# Altium footprint library PCB1.PcbLib: 13 footprints
Each footprint in its own frame and in the unit in brackets; x right, y up, seen from the top. Pads: shape width x height; smd on the part's side, far side on the other; paste and mask are expansions set on the pad; w line width, h text height; cw(c..) or ccw(c..) is an arc to the next point about the centre after c.
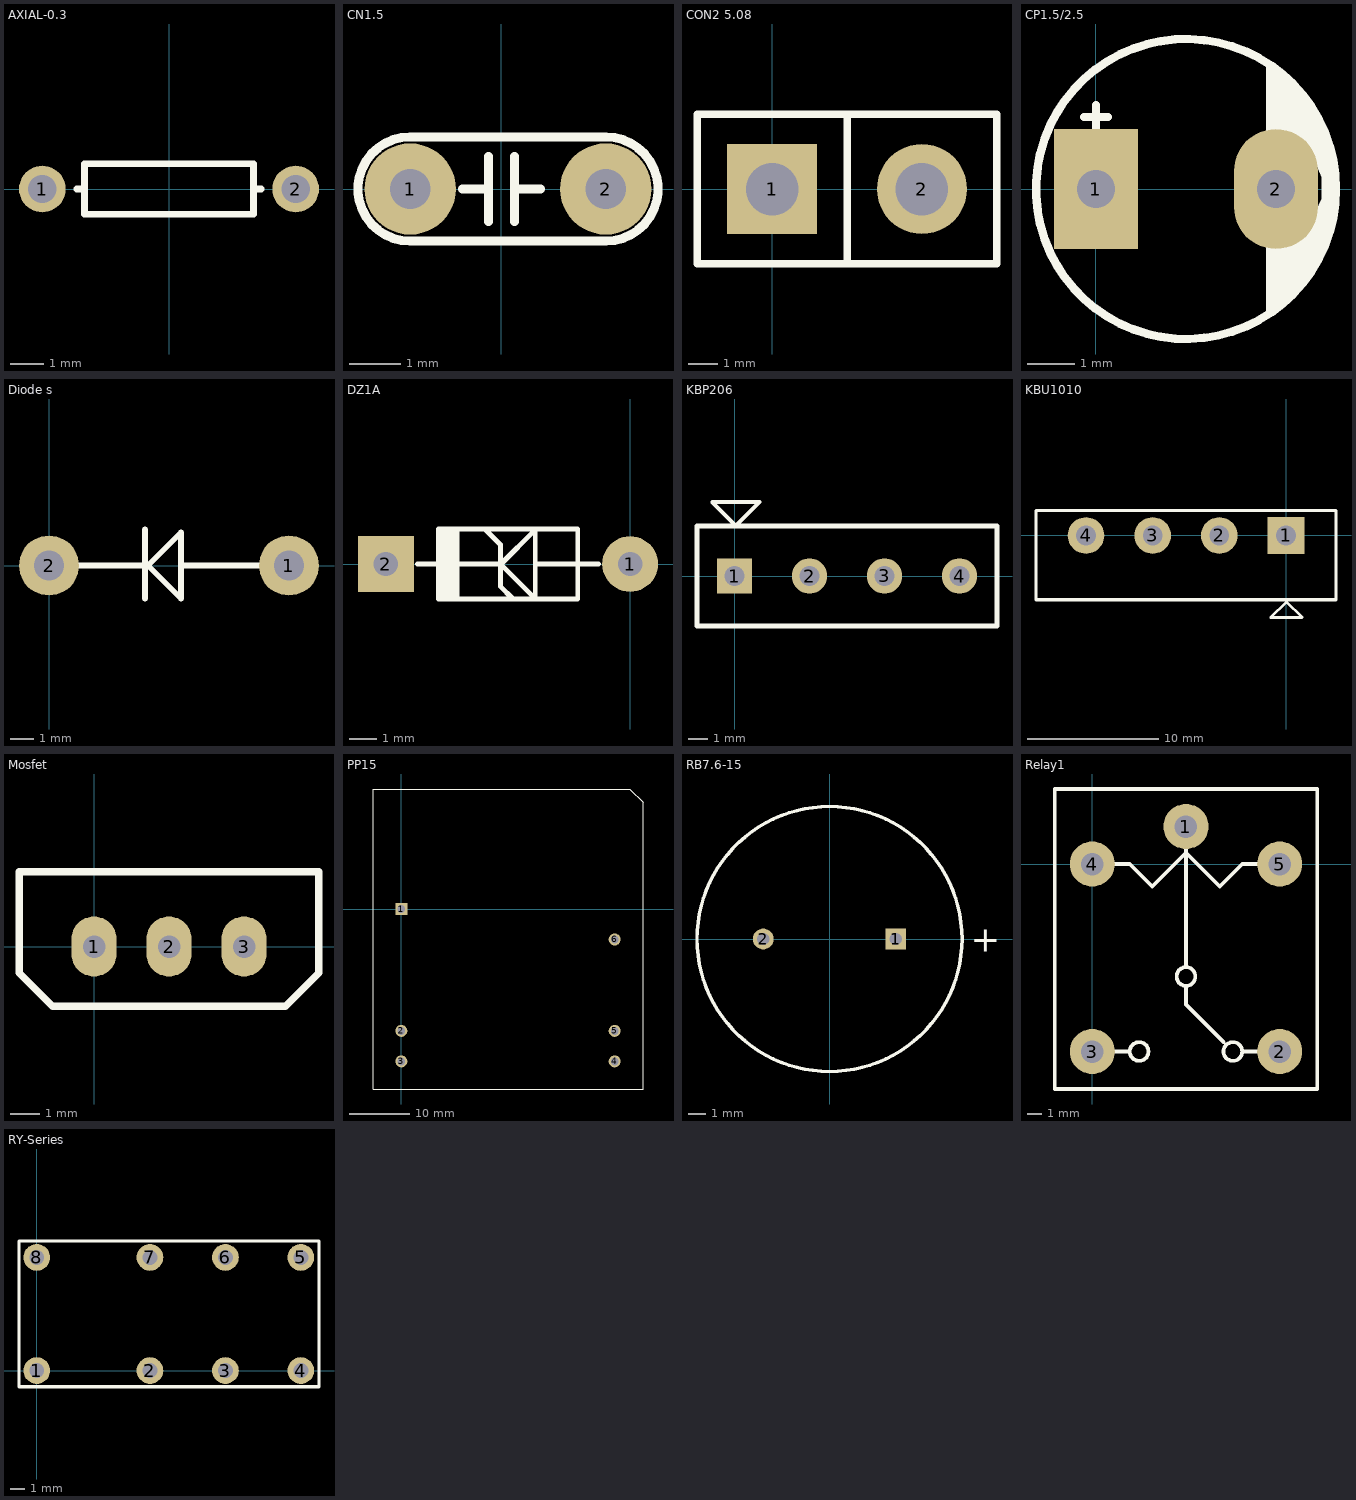
[diagram p0: the footprints below, top view; thin cyan lines are the x and y axes]

## AXIAL-0.3 [mm] "Axial Device, Thru-Hole; 2 Leads; 0.3 in Pin Spacing"
height 1.524
pads (2):
  round 1.4 hole 0.85: 1(-3.81,0) 2(3.81,0)
Top Overlay:
  lines w0.2: -2.769,0 -2.54,0 ; 2.769,0 2.54,0 ; 2.54,0 2.54,0.762 -2.54,0.762 -2.54,-0.762 2.54,-0.762 2.54,0

## CN1.5 [mil]
height 200
pads (2):
  round 70 hole 31: 1(-70,0) 2(80,0)
Top Overlay:
  lines w7: -30,0 -10,0 ; -10,-25 -10,25 ; 10,-25 10,25 ; 10,0 30,0 ; -70,-40 cw(c-70,0) -70,40 80,40 cw(c80,0) 80,-40 -70,-40
3D body "cn104.STEP": height 235, standoff -76.85, extent -109.86,-33.39 120,33.4

## CON2 5.08 [mil]
pads (2):
  rect 120x120 hole 70: 1(0,0)
  round 120 hole 70: 2(200,0)
Top Overlay:
  lines w10: 100,-100 100,100 ; -100,-100 300,-100 300,100 -100,100 -100,-100

## CP1.5/2.5 [mil] "Tu hoa 33 >100 uF,50V, 220uF/16V,25V ( it su dung )"
height 300
pads (2):
  rect 70x100 hole 32: 1(0,0)
  oval 70x100 hole 32: 2(150,0)
Top Overlay:
  circle w7: c75,0 r125
  region: 142,106 142,39 156,39 173,35 182,25 188,10 188,-8 183,-19 183,-19.53 171,-33 155,-38 142,-41 142,-107 156,-96 177,-72 194,-40 199,-14 200,0 198,24 189,50 175,74 160,93
  lines w7: -10,60 10,60 ; 0,50 0,70
3D body "User Library-Cap 6_3x11.STEP": height 433.67, standoff -747.43, extent -46,-121.02 202.03,127.02

## Diode s [mil] "Diode"
height 68.9
pads (2):
  round 100 hole 50: 1(400,0) 2(0,0)
Top Overlay:
  lines w10: 50,0 160,0 ; 160,-55 160,0 ; 160,60 160,40 160,0 ; 220,0 350,0 ; 160,0 165,0 ; 165,0 220,-55 220,55 165,0

## DZ1A [mil] "Diode 1A, W 100mil, L 350mil"
height 100
pads (2):
  round 80 hole 35: 1(0,0)
  rect 80x80 hole 35: 2(-350,0)
Top Overlay:
  region: -275,50 -275,-50 -245,-50 -245,50
  lines w7: -305,0 -275,0 ; -275,-16 -275,0 ; -275,21 -275,0 ; -255,0 -190,0 ; -208,50 -186,28 -186,-32 -168.5,-49.5 ; -185.5,-0.5 -136,-50 -136,50 -136,49 -185,0 -185,-1 ; -135,0 -75,0 -45,0 ; -275,0 -275,-50 -75,-50 -75,50 -275,50 -275,0
3D body "SW3dPS-Zener 1W.STEP": height 120.61, standoff -50, extent -346,-65 -15,40

## KBP206 [mm]
height 1.75
pads (4):
  rect 1.8x1.8 hole 1: 1(0,0)
  round 1.8 hole 1: 2(3.81,0) 3(7.62,0) 4(11.43,0)
Top Overlay:
  lines w0.203: -1.118,3.734 0.051,2.565 0.076,2.565 1.27,3.759 -1.118,3.759
  lines w0.254: -1.905,-2.54 -1.905,2.54 13.335,2.54 13.335,-2.54 -1.905,-2.54
3D body: height 12, standoff 0, extent -1.905,-2.54 13.31,2.54

## KBU1010 [mil] "Bridge rectifier 10A"
height 68.9
pads (4):
  rect 110x110 hole 59.06: 1(0,0)
  round 110 hole 59.06: 2(-200,0) 3(-400,0) 4(-600,0)
Top Overlay:
  lines w8: 48,-246 -46,-246 1,-199 2,-199 48,-245
  lines w10: -750,-192.91 150,-192.91 150,74.8 -750,74.8 -750,-192.91
3D body: height 748.03, standoff 0, extent -750,-193 151,75

## Mosfet [mil]
height 68.9
pads (3):
  oval 60x80 hole 30: 1(0,0) 2(100,0) 3(200,0)
Top Overlay:
  lines w10: -100,-35 -100,100 300,100 300,-35 255,-80 -55,-80 -100,-35

## PP15 [mm]
height 1.75
pads (6):
  rect 2x2 hole 1.3: 1(0,0)
  round 2 hole 1.3: 2(0,-20.32) 3(0,-25.4) 4(35.56,-25.4) 5(35.56,-20.32) 6(35.56,-5.08)
Top Overlay:
  lines w0.203: -4.72,-30 40.28,-30 40.28,17.784 38.064,20 -4.72,20 -4.72,-30
3D body: height 8, standoff 0, extent -4.14,-29.908 40.919,20.053

## RB7.6-15 [mm] "Polarized Capacitor (Radial); 2 Leads"
pads (2):
  rect 1.2x1.2 hole 0.7: 1(3.81,0)
  round 1.2 hole 0.7: 2(-3.81,0)
Top Overlay:
  circle w0.2: c0,0 r7.62
  text "+" at 8.132,-0.737 h1.5

## Relay1 [mil]
height 68.9
pads (5):
  round 120 hole 60: 1(250,100) 2(500,-500) 3(0,-500) 4(0,0) 5(500,0)
Top Overlay:
  circle w10: c125,-500 r25
  circle w10: c375,-500 r25
  circle w10: c250,-300 r25
  lines w10: 0,-500 100,-500 ; 0,0 100,0 160,-60 250,30 340,-60 400,0 500,0 ; 250,-325 250,-375 350,-475 ; 250,-275 250,100 ; 400,-500 500,-500 ; -100,-600 -100,200 600,200 600,-600 -100,-600

## RY-Series [mm]
height 1.75
pads (8):
  round 1.8 hole 1: 1(0,0) 2(7.62,0) 3(12.7,0) 4(17.78,0) 5(17.78,7.62) 6(12.7,7.62) 7(7.62,7.62) 8(0,7.62)
Top Overlay:
  lines w0.203: 18.999,-1.09 -1.2,-1.09 -1.2,8.71 19,8.71 19,-1.092
3D body: height 12.5, standoff 0, extent -1.156,-1.041 19.063,8.763